# EAGLE library part MCP2515 (library HyTechDevices - Copy)
MCP2515 Can Controller Datasheet <https://www.mouser.com/datasheet/2/268/MCP2515-Stand-Alone-CAN-Controller-with-SPI-200018-708845.pdf>
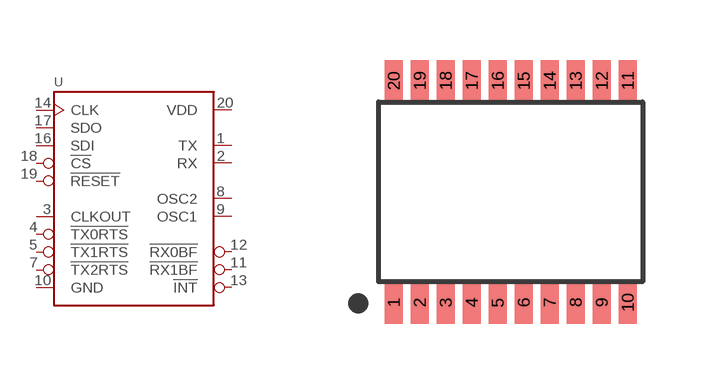
[diagram p18: symbol with the pads of TSSOP-20; footprint TSSOP-20]

Designator prefix U

## MCP2515 (DKPN: MCP2515-E/ST-ND; MANUFACTURER: Microchip Technology; MOPN: 579-MCP2515-E/ST; MPN: MCP2515-E/ST)  [TSSOP-20]
1  TX  out
2  RX  in
3  CLKOUT  out
4  !TX0RTS  in
5  !TX1RTS  in
7  !TX2RTS  in
8  OSC2
9  OSC1
10  GND  pwr
11  !RX1BF  out
12  !RX0BF  out
13  !INT  out
14  CLK  in
16  SDI  in
17  SDO  out
18  !CS  in
19  !RESET  in
20  VDD  pwr

## Footprint TSSOP-20 (pad centres in mm)
TSSOP 20 Datasheet <https://www.analog.com/media/en/package-pcb-resources/package/pkg_pdf/ltc-legacy-tssop/TSSOP_20_05-08-1650.pdf>
smd 0.45 x 1.05: 1 -2.925,-2.775; 2 -2.275,-2.775; 3 -1.625,-2.775; 4 -0.975,-2.775; 5 -0.325,-2.775; 6 0.325,-2.775; 7 0.975,-2.775; 8 1.625,-2.775; 9 2.275,-2.775; 10 2.925,-2.775; 11 2.925,2.775; 12 2.275,2.775; 13 1.625,2.775; 14 0.975,2.775; 15 0.325,2.775; 16 -0.325,2.775; 17 -0.975,2.775; 18 -1.625,2.775; 19 -2.275,2.775; 20 -2.925,2.775